# EAGLE library part 3220-14-0300-00 (library 3220-14-0300-00)
IDC BOX HEADER 0.050 14 POS Source: Datasheet <http://cnctech.us/pdfs/3220-XX-0300-00.pdf>
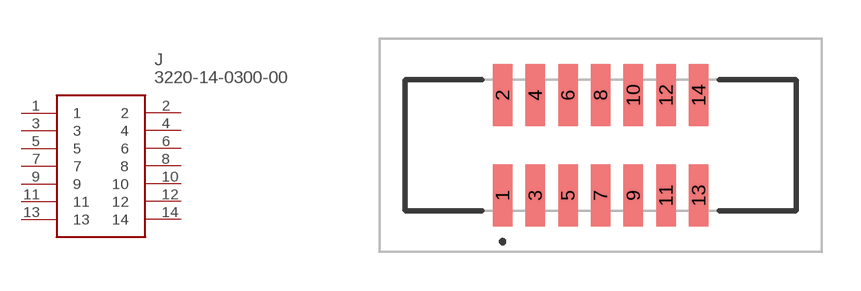
[diagram p0: symbol with the pads of 322014030000; footprint 322014030000]

Designator prefix J

## 3220-14-0300-00 (Arrow_Part_Number: 3220-14-0300-00; Arrow_Price-Stock: https://www.arrow.com/en/products/3220-14-0300-00/cnc-tech-llc; Description: IDC BOX HEADER 0.050 14 POS; Height: 5.8mm; Manufacturer_Name: CNC Tech; Manufacturer_Part_Number: 3220-14-0300-00)  [322014030000]
1  1
2  2
3  3
4  4
5  5
6  6
7  7
8  8
9  9
10  10
11  11
12  12
13  13
14  14

## Footprint 322014030000 (pad centres in mm)
3220-14-0300-00-1
smd 0.76 x 2.4: 1 -3.81,-1.95; 2 -3.81,1.95; 3 -2.54,-1.95; 4 -2.54,1.95; 5 -1.27,-1.95; 6 -1.27,1.95; 7 0,-1.95; 8 0,1.95; 9 1.27,-1.95; 10 1.27,1.95; 11 2.54,-1.95; 12 2.54,1.95; 13 3.81,-1.95; 14 3.81,1.95